# EAGLE library part 10018784-10200TLF (library 10018784-10200TLF)
PCI Express / PCI Connectors 36P CARD EDGE ASSM VERTICAL Source: Datasheet <https://www.mouser.in/datasheet/2/18/10018784-1228695.pdf>
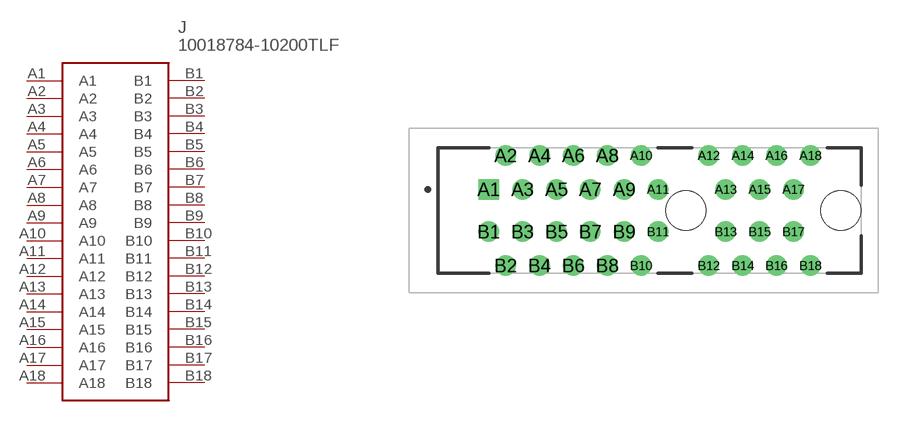
[diagram p0: symbol with the pads of 1001878410200TLF; footprint 1001878410200TLF]

Designator prefix J

## 10018784-10200TLF (Description: PCI Express / PCI Connectors 36P CARD EDGE ASSM VERTICAL; Height: 11.25mm; Manufacturer_Name: Amphenol; Manufacturer_Part_Number: 10018784-10200TLF; Mouser_Part_Number: 649-1001878410200TLF; Mouser_Price-Stock: https://www.mouser.co.uk/ProductDetail/Amphenol-FCI/10018784-10200TLF?qs=V%252BXmToedwohpuEZkyOHzaQ%3D%3D)  [1001878410200TLF]
A1  A1
A2  A2
A3  A3
A4  A4
A5  A5
A6  A6
A7  A7
A8  A8
A9  A9
A10  A10
A11  A11
A12  A12
A13  A13
A14  A14
A15  A15
A16  A16
A17  A17
A18  A18
B1  B1
B2  B2
B3  B3
B4  B4
B5  B5
B6  B6
B7  B7
B8  B8
B9  B9
B10  B10
B11  B11
B12  B12
B13  B13
B14  B14
B15  B15
B16  B16
B17  B17
B18  B18

## Footprint 1001878410200TLF (pad centres in mm)
10018784-10200TLF-1
drill 0.7 pad 1.2 square: A1 0,0
drill 0.7 pad 1.2: A2 1,2; A3 2,0; A4 3,2; A5 4,0; A6 5,2; A7 6,0; A8 7,2; A9 8,0; A10 9,2; A11 10,0; A12 13,2; A13 14,0; A14 15,2; A15 16,0; A16 17,2; A17 18,0; A18 19,2; B1 0,-2.5; B2 1,-4.5; B3 2,-2.5; B4 3,-4.5; B5 4,-2.5; B6 5,-4.5; B7 6,-2.5; B8 7,-4.5; B9 8,-2.5; B10 9,-4.5; B11 10,-2.5; B12 13,-4.5; B13 14,-2.5; B14 15,-4.5; B15 16,-2.5; B16 17,-4.5; B17 18,-2.5; B18 19,-4.5
hole 2.35 at 11.65,-1.25
hole 2.35 at 20.8,-1.25